# Altium footprint library flight-controller.PcbLib: 66 footprints (part 1 of 5)
Each footprint in its own frame and in the unit in brackets; x right, y up, seen from the top. Pads: shape width x height; smd on the part's side, far side on the other; paste and mask are expansions set on the pad; w line width, h text height; cw(c..) or ccw(c..) is an arc to the next point about the centre after c.
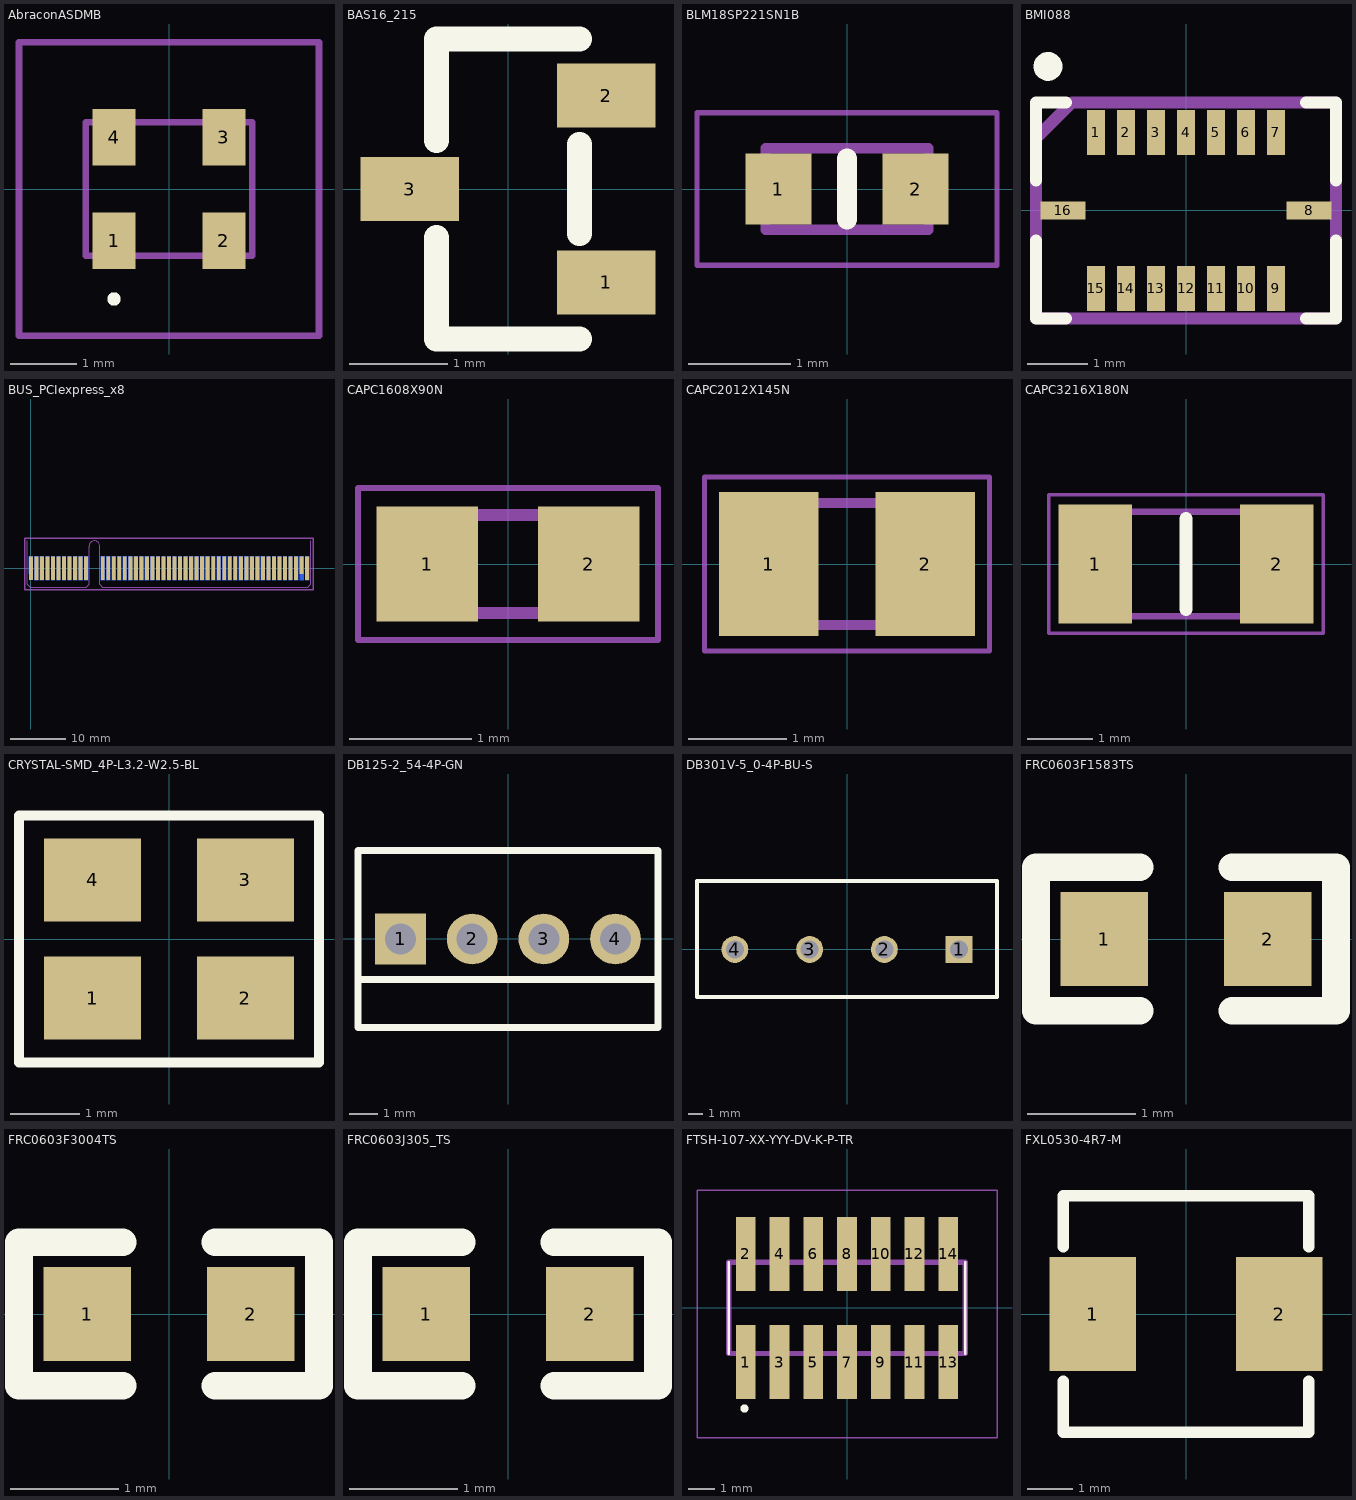
[diagram p0: the footprints below, top view; thin cyan lines are the x and y axes]

## AbraconASDMB [mm]
pads (4):
  rect 0.65x0.85 smd: 1(-0.825,-0.775) 2(0.825,-0.775) 3(0.825,0.775) 4(-0.825,0.775)
Top Overlay:
  lines w0.1: -0.825,-1.7 cw(c-0.825,-1.65) -0.825,-1.6 cw(c-0.825,-1.65) -0.825,-1.7
Mechanical 13:
  lines w0.1: -1.25,-1 1.25,-1 1.25,1 -1.25,1 -1.25,-1
Mechanical 15:
  lines w0.1: -2.25,-2.2 2.25,-2.2 2.25,2.2 -2.25,2.2 -2.25,-2.2
3D body "ASDMB-24.000MHZ-LC-T.stp": height 0.85, standoff 0, extent -1.25,-1 1.25,1

## BAS16_215 [mm]
pads (3):
  rect 1x0.65 smd: 1(1,-0.95) 2(1,0.95) 3(-1,0)
Top Overlay:
  lines w0.254: -0.726,-0.495 -0.726,-1.526 0.726,-1.526 ; -0.726,0.495 -0.726,1.526 0.726,1.526 ; 0.726,-0.455 0.726,0.455
3D body "BAS16_215.step": height 1.1, standoff 0.05, extent -1.253,-1.45 1.253,1.45

## BLM18SP221SN1B [mm]
pads (2):
  rect 0.65x0.7 smd: 1(-0.675,0) 2(0.675,0)
Top Overlay:
  lines w0.2: 0,-0.3 0,0.3
Mechanical 13:
  lines w0.1: -0.8,-0.4 0.8,-0.4 0.8,0.4 -0.8,0.4 -0.8,-0.4
Mechanical 15:
  lines w0.05: -1.475,-0.75 1.475,-0.75 1.475,0.75 -1.475,0.75 -1.475,-0.75
3D body "BLM18SG330SN1D.stp": height 0.8, standoff 0, extent -0.8,-0.4 0.8,0.4

## BMI088 [mm]
pads (16):
  rect 0.3x0.75 smd: 1(-1.5,1.3) 2(-1,1.3) 3(-0.5,1.3) 4(0,1.3) 5(0.5,1.3) 6(1,1.3) 7(1.5,1.3) 9(1.5,-1.3) 10(1,-1.3) 11(0.5,-1.3) 12(0,-1.3) 13(-0.5,-1.3) 14(-1,-1.3) 15(-1.5,-1.3)
  rect 0.75x0.3 smd: 8(2.05,0) 16(-2.05,0)
Top Overlay:
  circle w0.254: c-2.3,2.4 r0.114
  lines w0.2: -2.5,-0.5 -2.5,-1.8 -2,-1.8 ; -2.5,0.5 -2.5,1.8 -2,1.8 ; 2,-1.8 2.5,-1.8 2.5,-0.5 ; 2,1.8 2.5,1.8 2.5,0.5
Mechanical 13:
  lines w0.2: -2.5,-1.8 -2.5,1.2 -1.9,1.8 2.5,1.8 2.5,-1.8 -2.5,-1.8
3D body "BMI088.STEP": height 1.01, standoff 0.01, extent -2.25,-1.5 2.25,1.5

## BUS_PCIexpress_x8 [mm]
pads (98):
  rect 0.7x4.3 smd: 1(0,0) 2(1,0) 3(2,0) 4(3,0) 5(4,0) 6(5,0) 7(6,0) 8(7,0) 9(8,0) 10(9,0) 11(10,0) 12(13,0) 13(14,0) 14(15,0) 15(16,0) 16(17,0) 17(18,0) 18(19,0) 19(20,0) 20(21,0) 21(22,0) 22(23,0) 23(24,0) 24(25,0) 25(26,0) 26(27,0) 27(28,0) 28(29,0) 29(30,0) 30(31,0) 31(32,0) 32(33,0) 33(34,0) 34(35,0) 35(36,0) 36(37,0) 37(38,0) 38(39,0) 39(40,0) 40(41,0) 41(42,0) 42(43,0) 43(44,0) 44(45,0) 45(46,0) 46(47,0) 47(48,0) 49(50,0)
  rect 0.7x3.2 smd: 48(49,0.55)
  rect 0.7x3.2 smd far side: 50(0,0.55)
  rect 0.7x4.3 smd far side: 51(1,0) 52(2,0) 53(3,0) 54(4,0) 55(5,0) 56(6,0) 57(7,0) 58(8,0) 59(9,0) 60(10,0) 61(13,0) 62(14,0) 63(15,0) 64(16,0) 65(17,0) 66(18,0) 67(19,0) 68(20,0) 69(21,0) 70(22,0) 71(23,0) 72(24,0) 73(25,0) 74(26,0) 75(27,0) 76(28,0) 77(29,0) 78(30,0) 79(31,0) 80(32,0) 81(33,0) 82(34,0) 83(35,0) 84(36,0) 85(37,0) 86(38,0) 87(39,0) 88(40,0) 89(41,0) 90(42,0) 91(43,0) 92(44,0) 93(45,0) 94(46,0) 95(47,0) 96(48,0) 97(49,0) 98(50,0)
Board:
  lines w0.2: -0.65,4.95 -0.65,-2.95 -0.15,-3.45 10.05,-3.45 10.55,-2.95 10.55,4 cw(c11.5,4) 11.5,4.95 cw(c11.5,4) 12.45,4 12.45,-2.95 12.95,-3.45 50.15,-3.45 50.65,-2.95 50.65,4.95
Mechanical 15:
  lines w0.254: -1.15,-3.95 -1.15,5.45 51.15,5.45 51.15,-3.95 -1.15,-3.95

## CAPC1608X90N [mm]
pads (2):
  rect 0.83x0.94 smd: 1(-0.66,0) 2(0.66,0)
Mechanical 13:
  lines w0.1: -0.8,-0.4 -0.8,0.4 0.8,0.4 0.8,-0.4 -0.8,-0.4
Mechanical 15:
  lines w0.05: -1.225,-0.62 -1.225,0.62 1.225,0.62 1.225,-0.62 -1.225,-0.62
3D body "CC0603KRX7R9BB104.stp": height 0.9, standoff 0, extent -0.8,-0.4 0.8,0.4

## CAPC2012X145N [mm]
pads (2):
  rect 1.02x1.47 smd: 1(-0.8,0) 2(0.8,0)
Mechanical 13:
  lines w0.1: -1,-0.625 1,-0.625 1,0.625 -1,0.625 -1,-0.625
Mechanical 15:
  lines w0.05: -1.46,-0.89 1.46,-0.89 1.46,0.89 -1.46,0.89 -1.46,-0.89
3D body "CC0805MKX5R8BB226.stp": height 1.45, standoff 0, extent -1,-0.625 1,0.625

## CAPC3216X180N [mm]
pads (2):
  rect 1.13x1.82 smd: 1(-1.39,0) 2(1.39,0)
Top Overlay:
  lines w0.2: 0,-0.7 0,0.7
Mechanical 13:
  lines w0.1: -1.6,-0.8 1.6,-0.8 1.6,0.8 -1.6,0.8 -1.6,-0.8
Mechanical 15:
  lines w0.05: -2.105,-1.06 2.105,-1.06 2.105,1.06 -2.105,1.06 -2.105,-1.06
3D body "CC1206KKX7R8BB106.stp": height 1.8, standoff 0, extent -1.6,-0.8 1.6,0.8

## CRYSTAL-SMD_4P-L3.2-W2.5-BL [mm]
pads (4):
  rect 1.4x1.2 smd: 1(-1.1,-0.85) 2(1.1,-0.85) 3(1.1,0.85) 4(-1.1,0.85)
Top Overlay:
  lines w0.15: -2.159,-1.778 -2.159,1.778 2.159,1.778 2.159,-1.778 -2.159,-1.778
Mechanical 6:
  circle w0.06: c-1.6,-1.25 r0.03
Mechanical 7:
  circle w0.25: c-1.27,-0.89 r0.13
3D body "CRYSTAL-SMD_4P-L3.2-W2.5-BL.step": height 0.7, standoff 0, extent -1.6,-1.25 1.6,1.25

## DB125-2_54-4P-GN [mm]
pads (4):
  rect 1.8x1.8 hole 1.1: 1(-3.81,0)
  rrect100% 1.8x1.8 hole 1.1: 2(-1.27,0) 3(1.27,0) 4(3.81,0)
Top Overlay:
  lines w0.254: -5.32,-1.443 5.32,-1.443 ; -5.32,-3.14 5.32,-3.14 5.32,3.139 -5.32,3.139 -5.32,-3.14
3D body "DB125-2_54-4P-GN.step": height 8.5, standoff -3.5, extent -5.321,-3.13 5.32,3.14

## DB301V-5_0-4P-BU-S [mm]
pads (4):
  rect 1.8x1.8 hole 1.2: 1(7.5,0)
  rrect100% 1.8x1.8 hole 1.2: 2(2.5,0) 3(-2.5,0) 4(-7.5,0)
Top Overlay:
  lines w0.254: -10.033,-3.175 -10.033,4.572 10.033,4.572 10.033,-3.175 -10.033,-3.175
3D body "DB301V-5_0-4P-BU-S.step": height 10, standoff -4, extent -10.554,-3.038 10.046,4.562

## FRC0603F1583TS [mm]
pads (2):
  rect 0.806x0.864 smd: 1(-0.753,0) 2(0.753,0)
Top Overlay:
  lines w0.254: -0.426,-0.661 -1.385,-0.661 -1.385,0.661 -0.426,0.661 ; 0.426,-0.661 1.385,-0.661 1.385,0.661 0.426,0.661
3D body "FRC0603F1583TS.step": height 0.44, standoff -0.01, extent -0.81,-0.41 0.81,0.4

## FRC0603F3004TS [mm]
pads (2):
  rect 0.806x0.864 smd: 1(-0.753,0) 2(0.753,0)
Top Overlay:
  lines w0.254: -0.426,-0.661 -1.385,-0.661 -1.385,0.661 -0.426,0.661 ; 0.426,-0.661 1.385,-0.661 1.385,0.661 0.426,0.661
3D body "FRC0603F3004TS.step": height 0.44, standoff -0.01, extent -0.81,-0.4 0.81,0.41

## FRC0603J305_TS [mm]
pads (2):
  rect 0.806x0.864 smd: 1(-0.753,0) 2(0.753,0)
Top Overlay:
  lines w0.254: -0.426,-0.661 -1.385,-0.661 -1.385,0.661 -0.426,0.661 ; 0.426,-0.661 1.385,-0.661 1.385,0.661 0.426,0.661
3D body "FRC0603J305_TS.step": height 0.44, standoff -0.01, extent -0.81,-0.4 0.81,0.41

## FTSH-107-XX-YYY-DV-K-P-TR [mm]
pads (14):
  rect 0.74x2.79 smd: 1(-3.81,-2.035) 2(-3.81,2.035) 3(-2.54,-2.035) 4(-2.54,2.035) 5(-1.27,-2.035) 6(-1.27,2.035) 7(0,-2.035) 8(0,2.035) 9(1.27,-2.035) 10(1.27,2.035) 11(2.54,-2.035) 12(2.54,2.035) 13(3.81,-2.035) 14(3.81,2.035)
Top Overlay:
  circle w0.2: c-3.86,-3.785 r0.05
  lines w0.1: -4.445,-1.715 -4.445,1.715 ; 4.445,-1.715 4.445,1.715
Mechanical 13:
  lines w0.2: -4.445,-1.715 4.445,-1.715 4.445,1.715 -4.445,1.715 -4.445,-1.715
Mechanical 15:
  lines w0.05: -5.645,-4.885 5.645,-4.885 5.645,4.43 -5.645,4.43 -5.645,-4.885
3D body "FTSH-107-01-F-DV-K-P-TR.stp": height 6.99, standoff 0, extent -4.445,-4.425 4.445,2.941

## FXL0530-4R7-M [mm]
pads (2):
  rect 1.9x2.5 smd: 1(-2.05,0) 2(2.05,0)
Top Overlay:
  lines w0.254: -2.7,-1.481 -2.7,-2.6 2.7,-2.6 2.7,-1.481 ; -2.7,1.481 -2.7,2.6 2.7,2.6 2.7,1.481
3D body "FXL0530-4R7-M.step": height 2.8, standoff -0.01, extent -2.7,-2.6 2.7,2.6
3D body "FXL0530-4R7-M.step": height 2.8, standoff -0.01, extent -2.7,-2.6 2.7,2.6